# EAGLE library part MOLEX_51296-1294 (library Upverter Library)
MOLX-51296-1294
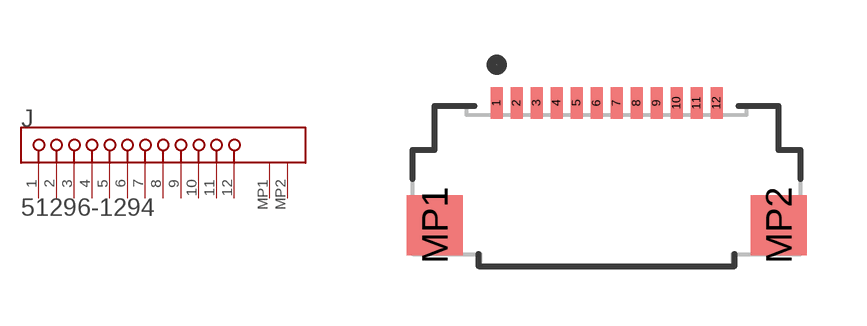
[diagram p0: symbol with the pads of MOLEX_51296-1294_0; footprint MOLEX_51296-1294_0]

Designator prefix J

## MOLEX_51296-1294MOLEX_51296-1294_0_0 (Circuits_Loaded: 12; Component_Link_1_Description: Manufacturer URL; Component_Link_1_URL: http://www.molex.com/molex/index.jsp; Component_Link_3_Description: Package Specification; Component_Link_3_URL: http://www.molex.com/pdm_docs/sd/512961294_sd.pdf; Contact_Position: Bottom; Current_Max_per_Contact: 0.5A; Durability_mating_cycles_max: 20; Entry_Angle: 90degrees Angle; MF: Molex; MPN: 51296-1294; Mated_Height: 1.30mm; Material___Metal: Phosphor Bronze; Material___Plating_Mating: Gold; Material___Plating_Termination: Gold; Mounting_Technology: Surface Mount; Number_of_Rows: 1; Orientation: Right Angle; PCB_Locator: No; PCB_Retention: Yes; Package_Description: 12-Lead FPC Connector, Pitch 0.5 mm; Package_Version: Rev. G, 02/2011; Packing: Tape and Reel; Pitch___Mating_Interface: 0.50mm; Polarized_to_PCB: Yes; Stackable: No; Voltage_Max: 50V AC (RMS)/DC; ciiva_ids: 3408585; datasheet: http://www.molex.com/webdocs/datasheets/pdf/en-us/0512961294_FFC_FPC_CONNECTORS.pdf; footprint_variant_name_0: Manufacturer Recommended; import_ts: 1521848761; imported: yes; imported_from: vault; package: 51296-1294; prefix: J; release_date: 1411372363; rohs: Yes; vault_guid: 5BB98A37-1DFE-42F8-ACC0-A2F2CBD76221; vault_revision: D4EEA741-95BA-4F80-9A9C-18942DF65E75)  [MOLEX_51296-1294_0]
1  1  pas
2  2  pas
3  3  pas
4  4  pas
5  5  pas
6  6  pas
7  7  pas
8  8  pas
9  9  pas
10  10  pas
11  11  pas
12  12  pas
MP1  MP1  pas
MP2  MP2  pas

## Footprint MOLEX_51296-1294_0 (pad centres in mm)
MOLX-51296-1294
smd 0.3 x 0.8: 1 -2.75,1.525; 2 -2.25,1.525; 3 -1.75,1.525; 4 -1.25,1.525; 5 -0.75,1.525; 6 -0.25,1.525; 7 0.25,1.525; 8 0.75,1.525; 9 1.25,1.525; 10 1.75,1.525; 11 2.25,1.525; 12 2.75,1.525
smd 1.4 x 1.5: MP1 -4.3,-1.525; MP2 4.3,-1.525